# Altium schematic symbol library Power_Converters IC's.SchLib: 37 symbols
Pins are listed as number, name and electrical type; pins without a type are passive.

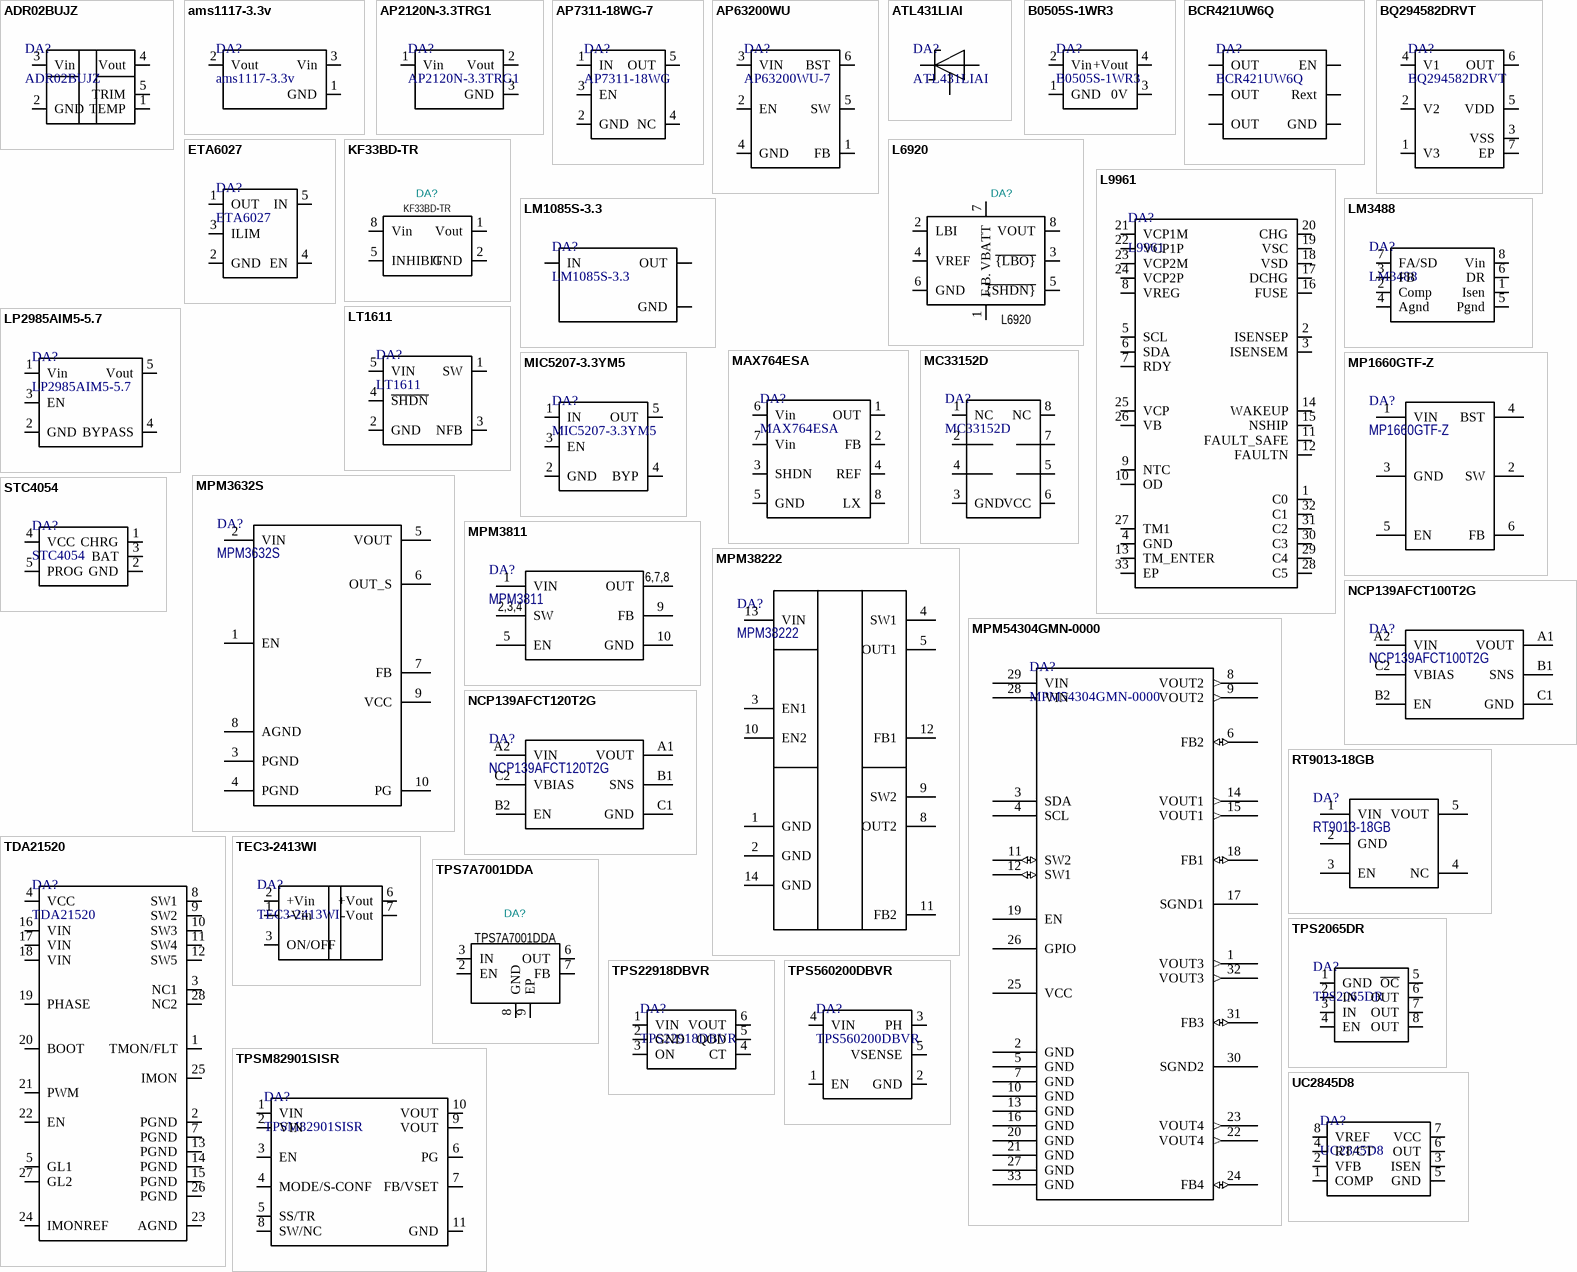
[diagram p0: symbols ADR02BUJZ to UC2845D8]

## ADR02BUJZ
designator DA?
Series Voltage Reference IC Fixed 5V V ±0.06% 10 mA TSOT-23-5
footprint SOT-23-5
pins: 1 TEMP, 2 GND, 3 Vin, 4 Vout, 5 TRIM

## ams1117-3.3v
designator DA?
1A Adjustable / Fixed Low Dropout Linear Regulator
footprint SOT-89-3
pins: 1 GND, 2 Vout, 3 Vin

## AP2120N-3.3TRG1
designator DA?
IC REG LINEAR 3.3V 150MA SOT23
footprint SOT-23-3 t
pins: 1 Vin, 2 Vout, 3 GND

## AP7311-18WG-7
designator DA?, comment AP7311-18WG
Linear Voltage Regulators 150mA null 1.8V positive 6V SOT-25
footprint SOT25
pins: 1 IN, 2 GND, 3 EN, 4 NC, 5 OUT

## AP63200WU
designator DA?, comment AP63200WU-7
Buck Switching Regulator IC Positive Adjustable 1.2V 1 Output 2A SOT-23-6 Thin, TSOT-23-6
footprint SOT-23-6
pins: 1 FB, 2 EN, 3 VIN, 4 GND, 5 SW, 6 BST

## ATL431LIAI
designator DA?
Voltage References Adjustable precision shunt regulator with optimized reference current (pin layout: KRA) 3-SOT-23 -40 to 85
footprint SOT-23-3
pins: D A, G K, S R

## B0505S-1WR3
designator DA?
1W, Fixed input voltage, isolated & unregulated single / output
footprint B0505S-1WR3
pins: 1 GND, 2 Vin, 3 0V, 4 +Vout

## BCR421UW6Q
designator DA?
LINEAR LED CONSTANT CURRENT REGULATOR
footprint SOT-23-6
pins: 1 EN, 2 OUT, 3 OUT, 4 GND, 5 OUT, 6 Rext

## BQ294582DRVT
designator DA?
Lithium-Ion/Polymer 2~3 WSON-6-EP(2x2)  Battery Management ROHS
footprint WSON-6
pins: 1 V3, 2 V2, 3 VSS, 4 V1, 5 VDD, 6 OUT, 7 EP

## ETA6027
designator DA?
Programmable Current-Limited Load Switch
footprint SOT-23-5
pins: 1 OUT, 2 GND, 3 ILIM, 4 EN, 5 IN

## KF33BD-TR
designator DA?
PartNumber: KF33BD-TR; Footprint: Package_SO:SO-8_3.9x4.9mm_P1.27mm; Value: KF33BD-TR
footprint SO-8_3.9x4.9mm_P1.27mm
pins: 1 Vout, 2 GND, 3 GND hidden, 4 NC hidden, 5 INHIBIT, 6 GND hidden, 7 GND hidden, 8 Vin

## L6920
designator DA?
PartNumber: L6920D; Footprint: KiCad_Libs:TSSOP8; Value: L6920
footprint TSSOP8
pins: 1 F.B., 2 LBI, 3 ~{{LBO}}, 4 VREF, 5 ~{{SHDN}}, 6 GND, 7 VBATT, 8 VOUT

## L9961
designator DA?
Lithium-Ion/Polymer 3~5 VFQFPN-32(5x5)  Battery Management ROHS
footprint VFQFPN 32 (5x5)
pins: 1 C0, 2 ISENSEP, 3 ISENSEM, 4 GND, 5 SCL, 6 SDA, 7 RDY, 8 VREG, 9 NTC, 10 OD, 11 FAULT_SAFE, 12 FAULTN, 13 TM_ENTER, 14 WAKEUP, 15 NSHIP, 16 FUSE, 17 DCHG, 18 VSD, 19 VSC, 20 CHG, 21 VCP1M, 22 VCP1P, 23 VCP2M, 24 VCP2P, 25 VCP, 26 VB, 27 TM1, 28 C5, 29 C4, 30 C3, 31 C2, 32 C1, 33 EP

## LM1085S-3.3
designator DA?
Low Dropout Positive Regulators
footprint TO-263
pins: 1 GND, 2 OUT, 3 IN

## LM3488
designator DA?
LM3488/-Q1AutomotiveHigh-EfficiencyControllerforBoost,SEPICandFly-BackDC-DC Converters
footprint VSSOP-8
pins: 1 Isen, 2 Comp, 3 FB, 4 Agnd, 5 Pgnd, 6 DR, 7 FA/SD, 8 Vin

## LP2985AIM5-5.7
designator DA?
LDO Voltage Regulators MicroPwr 150mA Lo Noise Ultra LDO Reg
footprint SOT-23-5
pins: 1 Vin, 2 GND, 3 EN, 4 BYPASS, 5 Vout

## LT1611
designator DA?
Inverting 1.4MHz Switching / Regulator in SOT-23
footprint SOT-23-5
pins: 1 SW, 2 GND, 3 NFB, 4 ~{SHDN}, 5 VIN

## MAX764ESA
designator DA?
High-Efficiency, Low IQ DC-DC Inverters
footprint SOIC-8 (6x5x1.75 mm)
pins: 1 OUT, 2 FB, 3 SHDN, 4 REF, 5 GND, 6 Vin, 7 Vin, 8 LX

## MC33152D
designator DA?
MOSFET Driver, High Speed, Dual
footprint SOIC-8 (6x5x1.75 mm)
pins: 1 NC, 2 IA, 3 GND, 4 IB, 5 OB, 6 VCC, 7 OA, 8 NC

## MIC5207-3.3YM5
designator DA?
Linear Voltage Regulator / 180mA 75dB@(100Hz) Fixed 3.3V Positive 16V SOT-23-5
footprint SOT-23-5
pins: 1 IN, 2 GND, 3 EN, 4 BYP, 5 OUT

## MP1660GTF-Z
designator DA?
Switching Voltage Regulators 16V,3A,600kHz
footprint MP1660GTF-Z
pins: 1 VIN, 2 SW, 3 GND, 4 BST, 5 EN, 6 FB

## MPM3632S
designator DA?
MPM3632S – SYNCHRONOUS STEP-DOWN MINI-MODULE CONVERTER
footprint EC LGA-10 (3mmx3mmx1.45mm)
pins: 1 EN, 2 VIN, 3 PGND, 4 PGND, 5 VOUT, 6 OUT_S, 7 FB, 8 AGND, 9 VCC, 10 PG

## MPM3811
designator DA?
MPM3811 2.3V - 5.5V Input, 1A Power Module in Small 2x2x1.6mm QFN Package
footprint QFN-10 (2mmx2mmx1.6mm)
pins: 1 VIN, 2 SW, 3 SW, 4 SW, 5 EN, 6 OUT, 7 OUT, 8 OUT, 9 FB, 10 GND
text: 6,7,8; 2,3,4

## MPM38222
designator DA?
Dual 2A, 2.7V-6V, Power Module, Synchronous, Step-Down Converter with Integrated Inductors
footprint QFN-14 (QFN-14 (4mmx4mmx1.6mm))
pins: 1 GND, 2 GND, 3 EN1, 4 SW1, 5 OUT1, 8 OUT2, 9 SW2, 10 EN2, 11 FB2, 12 FB1, 13 VIN, 14 GND

## MPM54304GMN-0000
designator DA?
4V to 16V Input, Quad-utput Power Module with I2C and MTP; Mfr_Name: Monolithic Power Systems; Copyright: Copyright (C) 2022 Ultra Librarian. All rights reserved.; Manufacturer_Part_Number: MPM54304GMN-0000; RefDes: RefDes; Type: DEV
footprint LGA7x7x2_MNP
pins: 1 VOUT3 (out), 2 GND, 3 SDA, 4 SCL, 5 GND, 6 FB2 (io), 7 GND, 8 VOUT2 (out), 9 VOUT2 (out), 10 GND, 11 SW2 (io), 12 SW1 (io), 13 GND, 14 VOUT1 (out), 15 VOUT1 (out), 16 GND, 17 SGND1, 18 FB1 (io), 19 EN, 20 GND, 21 GND, 22 VOUT4 (out), 23 VOUT4 (out), 24 FB4 (io), 25 VCC (power), 26 GPIO, 27 GND, 28 VIN, 29 VIN, 30 SGND2, 31 FB3 (io), 32 VOUT3 (out), 33 GND

## NCP139AFCT100T2G
designator DA?
LDO Regulator 1V0 - Very Low / Dropout, CMOS, Bias Rail / 1 A
footprint WLCSP6 (1.20x0.80)
pins: A1 VOUT, A2 VIN, B1 SNS, B2 EN, C1 GND, C2 VBIAS

## NCP139AFCT120T2G
designator DA?
LDO Regulator 1V2 - Very Low / Dropout, CMOS, Bias Rail / 1 A
footprint WLCSP6 (1.20x0.80)
pins: A1 VOUT, A2 VIN, B1 SNS, B2 EN, C1 GND, C2 VBIAS

## RT9013-18GB
designator DA?
500mA, Low Dropout, Low Noise Ultra-Fast Without / Bypass Capacitor CMOS LDO Regulator
footprint SOT-23-5
pins: 1 VIN, 2 GND, 3 EN, 4 NC, 5 VOUT

## STC4054
designator DA?
800mA Standalone linear Li-Ion / Battery charger with thermal regulation
footprint SOT-23-5
pins: 1 CHRG, 2 GND, 3 BAT, 4 VCC, 5 PROG

## TDA21520
designator DA?
Half Bridge 2 MOSFET 20A 4.25V~16V 20A IQFN-25 Gate Drivers
footprint IQFN-25
pins: 1 TMON/FLT, 2 PGND, 3 NC1, 4 VCC, 5 GL1, 7 PGND, 8 SW1, 9 SW2, 10 SW3, 11 SW4, 12 SW5, 13 PGND, 14 PGND, 15 PGND, 16 VIN, 17 VIN, 18 VIN, 19 PHASE, 20 BOOT, 21 PWM, 22 EN, 23 AGND, 24 IMONREF, 25 IMON, 26 PGND, 27 GL2, 28 NC2

## TEC3-2413WI
designator DA?
Isolated DC/DC Converters - Through Hole 3W 9-36Vin 15V 200mA SIP8 Iso Reg
footprint SIP8
pins: 1 -Vin, 2 +Vin, 3 ON/OFF, 6 +Vout, 7 -Vout

## TPS7A7001DDA
designator DA?
PartNumber: TPS7A7001DDAR; Footprint: Package_SO:TI_SO-PowerPAD-8; Value: TPS7A7001DDA
footprint SOIC-8-EP
pins: 1 NC hidden, 2 EN, 3 IN, 4 NC hidden, 5 NC hidden, 6 OUT, 7 FB, 8 GND, 9 EP

## TPS2065DR
designator DA?
CURRENT-LIMITED, POWER-DISTRIBUTION SWITCH / SOIC-8
footprint SOIC-8 (6x5x1.75 mm)
pins: 1 GND, 2 IN, 3 IN, 4 EN, 5 ~{OC}, 6 OUT, 7 OUT, 8 OUT

## TPS22918DBVR
designator DA?
1V~5.5V 53mΩ 2A 1 SOT-23-6 Power Distribution Switches ROHS
footprint SOT-23-6
pins: 1 VIN, 2 GND, 3 ON, 4 CT, 5 QOD, 6 VOUT

## TPS560200DBVR
designator DA?
IC REG BUCK ADJ 500MA SOT23-5
footprint SOT-23-5
pins: 1 EN, 2 GND, 3 PH, 4 VIN, 5 VSENSE

## TPSM82901SISR
designator DA?
Switching Voltage Regulators 3-V to 17-V, 1-A high efficiency, low IQ synchronous buck converter module with integrated inductor 11-uSiP -40 to 125
footprint TPSM82901SISR
pins: 1 VIN, 2 VIN, 3 EN, 4 MODE/S-CONF, 5 SS/TR, 6 PG, 7 FB/VSET, 8 SW/NC, 9 VOUT, 10 VOUT, 11 GND

## UC2845D8
designator DA?
Single ended 500KHz current mode PWM controller with 8.4V/7.6V UVLO 50% duty cycle, -40C to 85C
footprint SOIC-8 (6x5x1.75 mm)
pins: 1 COMP, 2 VFB, 3 ISEN, 4 RT/CT, 5 GND, 6 OUT, 7 VCC, 8 VREF